# Altium schematic symbol library jlcpcb_2025_04_ferrites_extended_0402.schlib: 536 symbols (part 10 of 10)
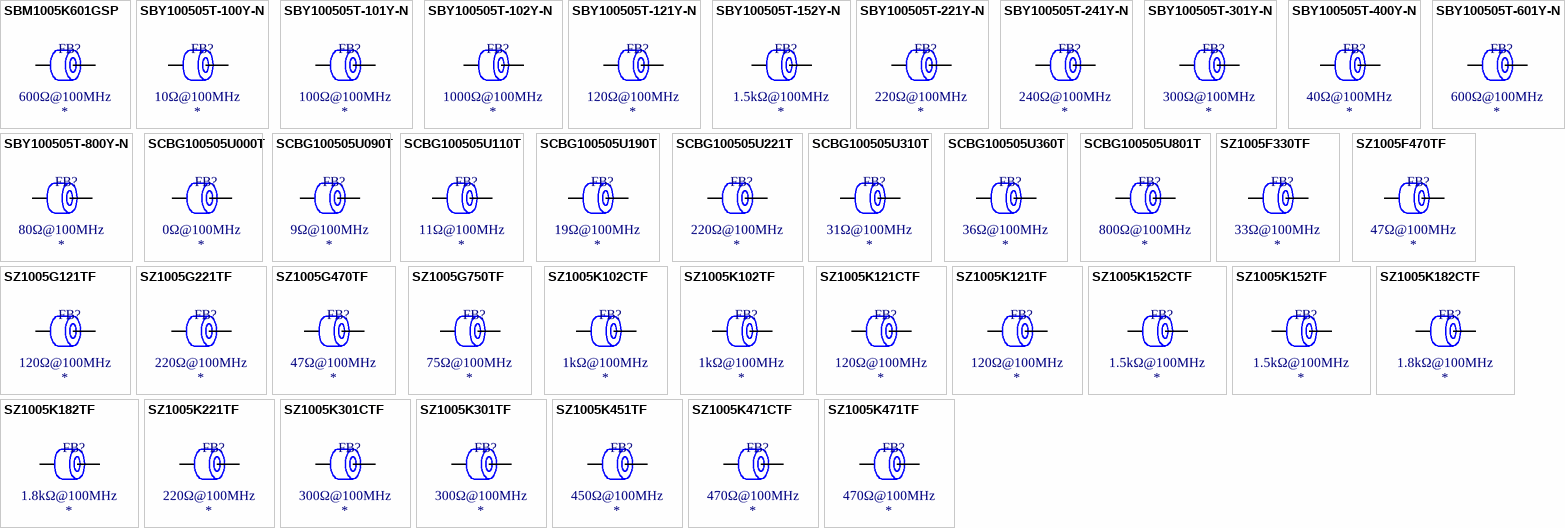
[diagram p22: symbols SBM1005K601GSP to SZ1005K471TF]

## SZ1005K102CTF
designator FB?  Impedance @ Frequency: 1kΩ@100MHz
Ferrite, 1kΩ@100MHz, ±25%, 900mΩ, 200mA, SMD 0402; Manufacturer: Sunlord; Manufacturer Part Number: SZ1005K102CTF; Package Size: 0402; JLCPCB Basic Part: No; JLCPCB Part Number: C316348; Supplier 1: LCSC; Category: Ferrite Beads; Supplier Part Number 1: C316348; Tolerance: ±25%; Rated Current: 200mA; DC Resistance: 900mΩ; RoHS: Yes; ComponentLink1Description: Datasheet; ComponentLink1URL: https://wmsc.lcsc.com/wmsc/upload/file/pdf/v2/lcsc/2310301641_Sunlord-SZ1005K102CTF_C316348.pdf; ComponentLink2Description: JLCPCB Part URL; ComponentLink2URL: https://jlcpcb.com/partdetail/C316348; ComponentLink3Description: LCSC Part URL; ComponentLink3URL: https://lcsc.com/product-detail/Ferrite-Beads_Sunlord-Sunlord-SZ1005K102CTF_C316348.html
footprint FB-0402 (0402 (1005M) Ferrite)
pins: 1, 2

## SZ1005K102TF
designator FB?  Impedance @ Frequency: 1kΩ@100MHz
Ferrite, 1kΩ@100MHz, ±25%, 1.2Ω, 100mA, SMD 0402; Manufacturer: Sunlord; Manufacturer Part Number: SZ1005K102TF; Package Size: 0402; JLCPCB Basic Part: No; JLCPCB Part Number: C92630; Supplier 1: LCSC; Category: Ferrite Beads; Supplier Part Number 1: C92630; Tolerance: ±25%; Rated Current: 100mA; DC Resistance: 1.2Ω; RoHS: Yes; ComponentLink1Description: Datasheet; ComponentLink1URL: https://wmsc.lcsc.com/wmsc/upload/file/pdf/v2/lcsc/2310301641_Sunlord-SZ1005K102TF_C92630.pdf; ComponentLink2Description: JLCPCB Part URL; ComponentLink2URL: https://jlcpcb.com/partdetail/C92630; ComponentLink3Description: LCSC Part URL; ComponentLink3URL: https://lcsc.com/product-detail/Ferrite-Beads_Sunlord-Sunlord-SZ1005K102TF_C92630.html
footprint FB-0402 (0402 (1005M) Ferrite)
pins: 1, 2

## SZ1005K121CTF
designator FB?  Impedance @ Frequency: 120Ω@100MHz
Ferrite, 120Ω@100MHz, ±25%, 400mΩ, SMD 0402; Manufacturer: Sunlord; Manufacturer Part Number: SZ1005K121CTF; Package Size: 0402; JLCPCB Basic Part: No; JLCPCB Part Number: C92627; Supplier 1: LCSC; Category: Ferrite Beads; Supplier Part Number 1: C92627; Tolerance: ±25%; DC Resistance: 400mΩ; RoHS: Yes; ComponentLink1Description: Datasheet; ComponentLink1URL: https://wmsc.lcsc.com/wmsc/upload/file/pdf/v2/lcsc/2310301641_Sunlord-SZ1005K121CTF_C92627.pdf; ComponentLink2Description: JLCPCB Part URL; ComponentLink2URL: https://jlcpcb.com/partdetail/C92627; ComponentLink3Description: LCSC Part URL; ComponentLink3URL: https://lcsc.com/product-detail/Ferrite-Beads_Sunlord-Sunlord-SZ1005K121CTF_C92627.html
pins: 1, 2

## SZ1005K121TF
designator FB?  Impedance @ Frequency: 120Ω@100MHz
Ferrite, 120Ω@100MHz, ±25%, 400mΩ, 400mA, SMD 0402; Manufacturer: Sunlord; Manufacturer Part Number: SZ1005K121TF; Package Size: 0402; JLCPCB Basic Part: No; JLCPCB Part Number: C96983; Supplier 1: LCSC; Category: Ferrite Beads; Supplier Part Number 1: C96983; Tolerance: ±25%; Rated Current: 400mA; DC Resistance: 400mΩ; RoHS: Yes; ComponentLink1Description: Datasheet; ComponentLink1URL: https://wmsc.lcsc.com/wmsc/upload/file/pdf/v2/lcsc/2310301641_Sunlord-SZ1005K121TF_C96983.pdf; ComponentLink2Description: JLCPCB Part URL; ComponentLink2URL: https://jlcpcb.com/partdetail/C96983; ComponentLink3Description: LCSC Part URL; ComponentLink3URL: https://lcsc.com/product-detail/Ferrite-Beads_Sunlord-Sunlord-SZ1005K121TF_C96983.html
footprint FB-0402 (0402 (1005M) Ferrite)
pins: 1, 2

## SZ1005K152CTF
designator FB?  Impedance @ Frequency: 1.5kΩ@100MHz
Ferrite, 1.5kΩ@100MHz, ±25%, 1.2Ω, 100mA, SMD 0402; Manufacturer: Sunlord; Manufacturer Part Number: SZ1005K152CTF; Package Size: 0402; JLCPCB Basic Part: No; JLCPCB Part Number: C370547; Supplier 1: LCSC; Category: Ferrite Beads; Supplier Part Number 1: C370547; Tolerance: ±25%; Rated Current: 100mA; DC Resistance: 1.2Ω; RoHS: Yes; ComponentLink1Description: Datasheet; ComponentLink1URL: https://wmsc.lcsc.com/wmsc/upload/file/pdf/v2/lcsc/2310301641_Sunlord-SZ1005K152CTF_C370547.pdf; ComponentLink2Description: JLCPCB Part URL; ComponentLink2URL: https://jlcpcb.com/partdetail/C370547; ComponentLink3Description: LCSC Part URL; ComponentLink3URL: https://lcsc.com/product-detail/Ferrite-Beads_Sunlord-Sunlord-SZ1005K152CTF_C370547.html
footprint FB-0402 (0402 (1005M) Ferrite)
pins: 1, 2

## SZ1005K152TF
designator FB?  Impedance @ Frequency: 1.5kΩ@100MHz
Ferrite, 1.5kΩ@100MHz, ±25%, 1.4Ω, 100mA, SMD 0402; Manufacturer: Sunlord; Manufacturer Part Number: SZ1005K152TF; Package Size: 0402; JLCPCB Basic Part: No; JLCPCB Part Number: C98276; Supplier 1: LCSC; Category: Ferrite Beads; Supplier Part Number 1: C98276; Tolerance: ±25%; Rated Current: 100mA; DC Resistance: 1.4Ω; RoHS: Yes; ComponentLink1Description: Datasheet; ComponentLink1URL: https://wmsc.lcsc.com/wmsc/upload/file/pdf/v2/lcsc/2310301641_Sunlord-SZ1005K152TF_C98276.pdf; ComponentLink2Description: JLCPCB Part URL; ComponentLink2URL: https://jlcpcb.com/partdetail/C98276; ComponentLink3Description: LCSC Part URL; ComponentLink3URL: https://lcsc.com/product-detail/Ferrite-Beads_Sunlord-Sunlord-SZ1005K152TF_C98276.html
footprint FB-0402 (0402 (1005M) Ferrite)
pins: 1, 2

## SZ1005K182CTF
designator FB?  Impedance @ Frequency: 1.8kΩ@100MHz
Ferrite, 1.8kΩ@100MHz, ±25%, 1.4Ω, 100mA, SMD 0402; Manufacturer: Sunlord; Manufacturer Part Number: SZ1005K182CTF; Package Size: 0402; JLCPCB Basic Part: No; JLCPCB Part Number: C279973; Supplier 1: LCSC; Category: Ferrite Beads; Supplier Part Number 1: C279973; Tolerance: ±25%; Rated Current: 100mA; DC Resistance: 1.4Ω; RoHS: Yes; ComponentLink1Description: Datasheet; ComponentLink1URL: https://wmsc.lcsc.com/wmsc/upload/file/pdf/v2/lcsc/2310301641_Sunlord-SZ1005K182CTF_C279973.pdf; ComponentLink2Description: JLCPCB Part URL; ComponentLink2URL: https://jlcpcb.com/partdetail/C279973; ComponentLink3Description: LCSC Part URL; ComponentLink3URL: https://lcsc.com/product-detail/Ferrite-Beads_Sunlord-Sunlord-SZ1005K182CTF_C279973.html
footprint FB-0402 (0402 (1005M) Ferrite)
pins: 1, 2

## SZ1005K182TF
designator FB?  Impedance @ Frequency: 1.8kΩ@100MHz
Ferrite, 1.8kΩ@100MHz, ±25%, 1.8Ω, 50mA, SMD 0402; Manufacturer: Sunlord; Manufacturer Part Number: SZ1005K182TF; Package Size: 0402; JLCPCB Basic Part: No; JLCPCB Part Number: C89917; Supplier 1: LCSC; Category: Ferrite Beads; Supplier Part Number 1: C89917; Tolerance: ±25%; Rated Current: 50mA; DC Resistance: 1.8Ω; RoHS: Yes; ComponentLink1Description: Datasheet; ComponentLink1URL: https://wmsc.lcsc.com/wmsc/upload/file/pdf/v2/lcsc/2310301641_Sunlord-SZ1005K182TF_C89917.pdf; ComponentLink2Description: JLCPCB Part URL; ComponentLink2URL: https://jlcpcb.com/partdetail/C89917; ComponentLink3Description: LCSC Part URL; ComponentLink3URL: https://lcsc.com/product-detail/Ferrite-Beads_Sunlord-Sunlord-SZ1005K182TF_C89917.html
footprint FB-0402 (0402 (1005M) Ferrite)
pins: 1, 2

## SZ1005K221TF
designator FB?  Impedance @ Frequency: 220Ω@100MHz
Ferrite, 220Ω@100MHz, ±25%, 700mΩ, 200mA, SMD 0402; Manufacturer: Sunlord; Manufacturer Part Number: SZ1005K221TF; Package Size: 0402; JLCPCB Basic Part: No; JLCPCB Part Number: C96984; Supplier 1: LCSC; Category: Ferrite Beads; Supplier Part Number 1: C96984; Tolerance: ±25%; Rated Current: 200mA; DC Resistance: 700mΩ; RoHS: Yes; ComponentLink1Description: Datasheet; ComponentLink1URL: https://wmsc.lcsc.com/wmsc/upload/file/pdf/v2/lcsc/2310301641_Sunlord-SZ1005K221TF_C96984.pdf; ComponentLink2Description: JLCPCB Part URL; ComponentLink2URL: https://jlcpcb.com/partdetail/C96984; ComponentLink3Description: LCSC Part URL; ComponentLink3URL: https://lcsc.com/product-detail/Ferrite-Beads_Sunlord-Sunlord-SZ1005K221TF_C96984.html
footprint FB-0402 (0402 (1005M) Ferrite)
pins: 1, 2

## SZ1005K301CTF
designator FB?  Impedance @ Frequency: 300Ω@100MHz
Ferrite, 300Ω@100MHz, ±25%, 800mΩ, SMD 0402; Manufacturer: Sunlord; Manufacturer Part Number: SZ1005K301CTF; Package Size: 0402; JLCPCB Basic Part: No; JLCPCB Part Number: C316347; Supplier 1: LCSC; Category: Ferrite Beads; Supplier Part Number 1: C316347; Tolerance: ±25%; DC Resistance: 800mΩ; RoHS: Yes; ComponentLink1Description: Datasheet; ComponentLink1URL: https://wmsc.lcsc.com/wmsc/upload/file/pdf/v2/lcsc/2310301641_Sunlord-SZ1005K301CTF_C316347.pdf; ComponentLink2Description: JLCPCB Part URL; ComponentLink2URL: https://jlcpcb.com/partdetail/C316347; ComponentLink3Description: LCSC Part URL; ComponentLink3URL: https://lcsc.com/product-detail/Ferrite-Beads_Sunlord-Sunlord-SZ1005K301CTF_C316347.html
pins: 1, 2

## SZ1005K301TF
designator FB?  Impedance @ Frequency: 300Ω@100MHz
Ferrite, 300Ω@100MHz, ±25%, 800mΩ, 200mA, SMD 0402; Manufacturer: Sunlord; Manufacturer Part Number: SZ1005K301TF; Package Size: 0402; JLCPCB Basic Part: No; JLCPCB Part Number: C98275; Supplier 1: LCSC; Category: Ferrite Beads; Supplier Part Number 1: C98275; Tolerance: ±25%; Rated Current: 200mA; DC Resistance: 800mΩ; RoHS: Yes; ComponentLink1Description: Datasheet; ComponentLink1URL: https://wmsc.lcsc.com/wmsc/upload/file/pdf/v2/lcsc/2310301641_Sunlord-SZ1005K301TF_C98275.pdf; ComponentLink2Description: JLCPCB Part URL; ComponentLink2URL: https://jlcpcb.com/partdetail/C98275; ComponentLink3Description: LCSC Part URL; ComponentLink3URL: https://lcsc.com/product-detail/Ferrite-Beads_Sunlord-Sunlord-SZ1005K301TF_C98275.html
footprint FB-0402 (0402 (1005M) Ferrite)
pins: 1, 2

## SZ1005K451TF
designator FB?  Impedance @ Frequency: 450Ω@100MHz
Ferrite, 450Ω@100MHz, ±25%, SMD 0402; Manufacturer: Sunlord; Manufacturer Part Number: SZ1005K451TF; Package Size: 0402; JLCPCB Basic Part: No; JLCPCB Part Number: C882643; Supplier 1: LCSC; Category: Ferrite Beads; Supplier Part Number 1: C882643; Tolerance: ±25%; RoHS: Yes; ComponentLink1Description: Datasheet; ComponentLink1URL: https://wmsc.lcsc.com/wmsc/upload/file/pdf/v2/lcsc/2310301641_Sunlord-SZ1005K451TF_C882643.pdf; ComponentLink2Description: JLCPCB Part URL; ComponentLink2URL: https://jlcpcb.com/partdetail/C882643; ComponentLink3Description: LCSC Part URL; ComponentLink3URL: https://lcsc.com/product-detail/Ferrite-Beads_Sunlord-Sunlord-SZ1005K451TF_C882643.html
pins: 1, 2

## SZ1005K471CTF
designator FB?  Impedance @ Frequency: 470Ω@100MHz
Ferrite, 470Ω@100MHz, ±25%, 600mΩ, SMD 0402; Manufacturer: Sunlord; Manufacturer Part Number: SZ1005K471CTF; Package Size: 0402; JLCPCB Basic Part: No; JLCPCB Part Number: C919156; Supplier 1: LCSC; Category: Ferrite Beads; Supplier Part Number 1: C919156; Tolerance: ±25%; DC Resistance: 600mΩ; RoHS: Yes; ComponentLink1Description: Datasheet; ComponentLink1URL: https://wmsc.lcsc.com/wmsc/upload/file/pdf/v2/lcsc/2310301641_Sunlord-SZ1005K471CTF_C919156.pdf; ComponentLink2Description: JLCPCB Part URL; ComponentLink2URL: https://jlcpcb.com/partdetail/C919156; ComponentLink3Description: LCSC Part URL; ComponentLink3URL: https://lcsc.com/product-detail/Ferrite-Beads_Sunlord-Sunlord-SZ1005K471CTF_C919156.html
pins: 1, 2

## SZ1005K471TF
designator FB?  Impedance @ Frequency: 470Ω@100MHz
Ferrite, 470Ω@100MHz, ±25%, SMD 0402; Manufacturer: Sunlord; Manufacturer Part Number: SZ1005K471TF; Package Size: 0402; JLCPCB Basic Part: No; JLCPCB Part Number: C92629; Supplier 1: LCSC; Category: Ferrite Beads; Supplier Part Number 1: C92629; Tolerance: ±25%; RoHS: Yes; ComponentLink1Description: Datasheet; ComponentLink1URL: https://wmsc.lcsc.com/wmsc/upload/file/pdf/v2/lcsc/2310301641_Sunlord-SZ1005K471TF_C92629.pdf; ComponentLink2Description: JLCPCB Part URL; ComponentLink2URL: https://jlcpcb.com/partdetail/C92629; ComponentLink3Description: LCSC Part URL; ComponentLink3URL: https://lcsc.com/product-detail/Ferrite-Beads_Sunlord-Sunlord-SZ1005K471TF_C92629.html
pins: 1, 2

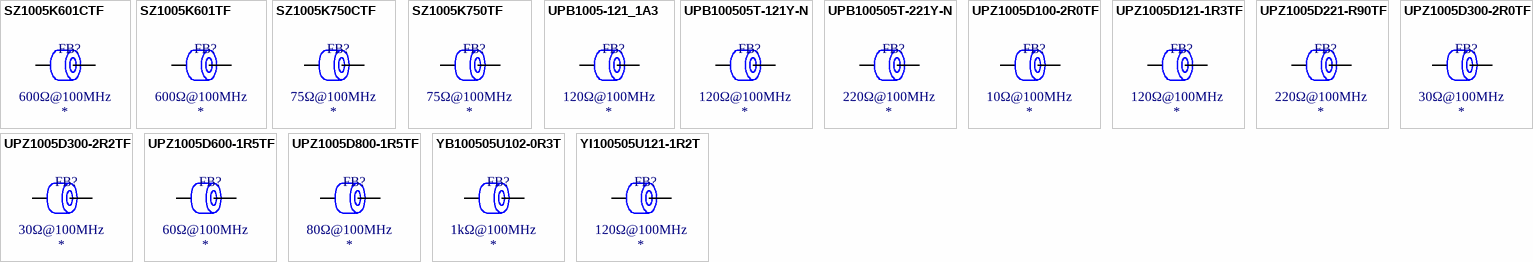
[diagram p13: symbols SZ1005K601CTF to YI100505U121-1R2T]

## SZ1005K601CTF
designator FB?  Impedance @ Frequency: 600Ω@100MHz
Ferrite, 600Ω@100MHz, ±25%, 1.1Ω, SMD 0402; Manufacturer: Sunlord; Manufacturer Part Number: SZ1005K601CTF; Package Size: 0402; JLCPCB Basic Part: No; JLCPCB Part Number: C316346; Supplier 1: LCSC; Category: Ferrite Beads; Supplier Part Number 1: C316346; Tolerance: ±25%; DC Resistance: 1.1Ω; RoHS: Yes; ComponentLink1Description: Datasheet; ComponentLink1URL: https://wmsc.lcsc.com/wmsc/upload/file/pdf/v2/lcsc/2310301641_Sunlord-SZ1005K601CTF_C316346.pdf; ComponentLink2Description: JLCPCB Part URL; ComponentLink2URL: https://jlcpcb.com/partdetail/C316346; ComponentLink3Description: LCSC Part URL; ComponentLink3URL: https://lcsc.com/product-detail/Ferrite-Beads_Sunlord-Sunlord-SZ1005K601CTF_C316346.html
pins: 1, 2

## SZ1005K601TF
designator FB?  Impedance @ Frequency: 600Ω@100MHz
Ferrite, 600Ω@100MHz, ±25%, 1.1Ω, 100mA, SMD 0402; Manufacturer: Sunlord; Manufacturer Part Number: SZ1005K601TF; Package Size: 0402; JLCPCB Basic Part: No; JLCPCB Part Number: C316345; Supplier 1: LCSC; Category: Ferrite Beads; Supplier Part Number 1: C316345; Tolerance: ±25%; Rated Current: 100mA; DC Resistance: 1.1Ω; RoHS: Yes; ComponentLink1Description: Datasheet; ComponentLink1URL: https://wmsc.lcsc.com/wmsc/upload/file/pdf/v2/lcsc/2310301641_Sunlord-SZ1005K601TF_C316345.pdf; ComponentLink2Description: JLCPCB Part URL; ComponentLink2URL: https://jlcpcb.com/partdetail/C316345; ComponentLink3Description: LCSC Part URL; ComponentLink3URL: https://lcsc.com/product-detail/Ferrite-Beads_Sunlord-Sunlord-SZ1005K601TF_C316345.html
footprint FB-0402 (0402 (1005M) Ferrite)
pins: 1, 2

## SZ1005K750CTF
designator FB?  Impedance @ Frequency: 75Ω@100MHz
Ferrite, 75Ω@100MHz, ±25%, 300mΩ, SMD 0402; Manufacturer: Sunlord; Manufacturer Part Number: SZ1005K750CTF; Package Size: 0402; JLCPCB Basic Part: No; JLCPCB Part Number: C370548; Supplier 1: LCSC; Category: Ferrite Beads; Supplier Part Number 1: C370548; Tolerance: ±25%; DC Resistance: 300mΩ; RoHS: Yes; ComponentLink1Description: Datasheet; ComponentLink1URL: https://wmsc.lcsc.com/wmsc/upload/file/pdf/v2/lcsc/2310301641_Sunlord-SZ1005K750CTF_C370548.pdf; ComponentLink2Description: JLCPCB Part URL; ComponentLink2URL: https://jlcpcb.com/partdetail/C370548; ComponentLink3Description: LCSC Part URL; ComponentLink3URL: https://lcsc.com/product-detail/Ferrite-Beads_Sunlord-Sunlord-SZ1005K750CTF_C370548.html
pins: 1, 2

## SZ1005K750TF
designator FB?  Impedance @ Frequency: 75Ω@100MHz
Ferrite, 75Ω@100MHz, ±25%, 300mΩ, 600mA, SMD 0402; Manufacturer: Sunlord; Manufacturer Part Number: SZ1005K750TF; Package Size: 0402; JLCPCB Basic Part: No; JLCPCB Part Number: C96985; Supplier 1: LCSC; Category: Ferrite Beads; Supplier Part Number 1: C96985; Tolerance: ±25%; Rated Current: 600mA; DC Resistance: 300mΩ; RoHS: Yes; ComponentLink1Description: Datasheet; ComponentLink1URL: https://wmsc.lcsc.com/wmsc/upload/file/pdf/v2/lcsc/2310301641_Sunlord-SZ1005K750TF_C96985.pdf; ComponentLink2Description: JLCPCB Part URL; ComponentLink2URL: https://jlcpcb.com/partdetail/C96985; ComponentLink3Description: LCSC Part URL; ComponentLink3URL: https://lcsc.com/product-detail/Ferrite-Beads_Sunlord-Sunlord-SZ1005K750TF_C96985.html
footprint FB-0402 (0402 (1005M) Ferrite)
pins: 1, 2

## UPB1005-121_1A3
designator FB?  Impedance @ Frequency: 120Ω@100MHz
Ferrite, 120Ω@100MHz, ±25%, 120mΩ, 1.3A, SMD 0402; Manufacturer: CEC(Shenzhen Zhenhua Fu Elec); Manufacturer Part Number: UPB1005-121/1A3; Package Size: 0402; JLCPCB Basic Part: No; JLCPCB Part Number: C2982969; Supplier 1: LCSC; Category: Ferrite Beads; Supplier Part Number 1: C2982969; Tolerance: ±25%; Rated Current: 1.3A; DC Resistance: 120mΩ; RoHS: Yes; ComponentLink1Description: Datasheet; ComponentLink2Description: JLCPCB Part URL; ComponentLink2URL: https://jlcpcb.com/partdetail/C2982969; ComponentLink3Description: LCSC Part URL; ComponentLink3URL: https://lcsc.com/product-detail/Ferrite-Beads_CECShenzhen-Zhenhua-Fu-Elec-CECShenzhen-Zhenhua-Fu-Elec-UPB1005-121-1A3_C2982969.html
footprint FB-0402 (0402 (1005M) Ferrite)
pins: 1, 2

## UPB100505T-121Y-N
designator FB?  Impedance @ Frequency: 120Ω@100MHz
Ferrite, 120Ω@100MHz, ±25%, 0.055Ω, 2000mA, SMD 0402; Manufacturer: Chilisin Elec; Manufacturer Part Number: UPB100505T-121Y-N; Package Size: 0402; JLCPCB Basic Part: No; JLCPCB Part Number: C285596; Supplier 1: LCSC; Category: Ferrite Beads; Supplier Part Number 1: C285596; Tolerance: ±25%; Rated Current: 2000mA; DC Resistance: 0.055Ω; RoHS: Yes; ComponentLink1Description: Datasheet; ComponentLink1URL: https://wmsc.lcsc.com/wmsc/upload/file/pdf/v2/lcsc/2304140030_Chilisin-Elec-UPB100505T-121Y-N_C285596.pdf; ComponentLink2Description: JLCPCB Part URL; ComponentLink2URL: https://jlcpcb.com/partdetail/C285596; ComponentLink3Description: LCSC Part URL; ComponentLink3URL: https://lcsc.com/product-detail/Ferrite-Beads_Chilisin-Elec-Chilisin-Elec-UPB100505T-121Y-N_C285596.html
footprint FB-0402 (0402 (1005M) Ferrite)
pins: 1, 2

## UPB100505T-221Y-N
designator FB?  Impedance @ Frequency: 220Ω@100MHz
Ferrite, 220Ω@100MHz, ±25%, 0.1Ω, 1400mA, SMD 0402; Manufacturer: Chilisin Elec; Manufacturer Part Number: UPB100505T-221Y-N; Package Size: 0402; JLCPCB Basic Part: No; JLCPCB Part Number: C108316; Supplier 1: LCSC; Category: Ferrite Beads; Supplier Part Number 1: C108316; Tolerance: ±25%; Rated Current: 1400mA; DC Resistance: 0.1Ω; RoHS: Yes; ComponentLink1Description: Datasheet; ComponentLink1URL: https://wmsc.lcsc.com/wmsc/upload/file/pdf/v2/lcsc/2304140030_Chilisin-Elec-UPB100505T-221Y-N_C108316.pdf; ComponentLink2Description: JLCPCB Part URL; ComponentLink2URL: https://jlcpcb.com/partdetail/C108316; ComponentLink3Description: LCSC Part URL; ComponentLink3URL: https://lcsc.com/product-detail/Ferrite-Beads_Chilisin-Elec-Chilisin-Elec-UPB100505T-221Y-N_C108316.html
footprint FB-0402 (0402 (1005M) Ferrite)
pins: 1, 2

## UPZ1005D100-2R0TF
designator FB?  Impedance @ Frequency: 10Ω@100MHz
Ferrite, 10Ω@100MHz, 45mΩ, 2A, SMD 0402; Manufacturer: Sunlord; Manufacturer Part Number: UPZ1005D100-2R0TF; Package Size: 0402; JLCPCB Basic Part: No; JLCPCB Part Number: C370568; Supplier 1: LCSC; Category: Ferrite Beads; Supplier Part Number 1: C370568; Rated Current: 2A; DC Resistance: 45mΩ; RoHS: Yes; ComponentLink1Description: Datasheet; ComponentLink1URL: https://wmsc.lcsc.com/wmsc/upload/file/pdf/v2/lcsc/2310301641_Sunlord-UPZ1005D100-2R0TF_C370568.pdf; ComponentLink2Description: JLCPCB Part URL; ComponentLink2URL: https://jlcpcb.com/partdetail/C370568; ComponentLink3Description: LCSC Part URL; ComponentLink3URL: https://lcsc.com/product-detail/Ferrite-Beads_Sunlord-Sunlord-UPZ1005D100-2R0TF_C370568.html
pins: 1, 2

## UPZ1005D121-1R3TF
designator FB?  Impedance @ Frequency: 120Ω@100MHz
Ferrite, 120Ω@100MHz, ±25%, 90mΩ, 1.3A, SMD 0402; Manufacturer: Sunlord; Manufacturer Part Number: UPZ1005D121-1R3TF; Package Size: 0402; JLCPCB Basic Part: No; JLCPCB Part Number: C96993; Supplier 1: LCSC; Category: Ferrite Beads; Supplier Part Number 1: C96993; Tolerance: ±25%; Rated Current: 1.3A; DC Resistance: 90mΩ; RoHS: Yes; ComponentLink1Description: Datasheet; ComponentLink1URL: https://wmsc.lcsc.com/wmsc/upload/file/pdf/v2/lcsc/2310301641_Sunlord-UPZ1005D121-1R3TF_C96993.pdf; ComponentLink2Description: JLCPCB Part URL; ComponentLink2URL: https://jlcpcb.com/partdetail/C96993; ComponentLink3Description: LCSC Part URL; ComponentLink3URL: https://lcsc.com/product-detail/Ferrite-Beads_Sunlord-Sunlord-UPZ1005D121-1R3TF_C96993.html
footprint FB-0402 (0402 (1005M) Ferrite)
pins: 1, 2

## UPZ1005D221-R90TF
designator FB?  Impedance @ Frequency: 220Ω@100MHz
Ferrite, 220Ω@100MHz, ±25%, 160mΩ, 0.9A, SMD 0402; Manufacturer: Sunlord; Manufacturer Part Number: UPZ1005D221-R90TF; Package Size: 0402; JLCPCB Basic Part: No; JLCPCB Part Number: C96994; Supplier 1: LCSC; Category: Ferrite Beads; Supplier Part Number 1: C96994; Tolerance: ±25%; Rated Current: 0.9A; DC Resistance: 160mΩ; RoHS: Yes; ComponentLink1Description: Datasheet; ComponentLink1URL: https://wmsc.lcsc.com/wmsc/upload/file/pdf/v2/lcsc/2310301641_Sunlord-UPZ1005D221-R90TF_C96994.pdf; ComponentLink2Description: JLCPCB Part URL; ComponentLink2URL: https://jlcpcb.com/partdetail/C96994; ComponentLink3Description: LCSC Part URL; ComponentLink3URL: https://lcsc.com/product-detail/Ferrite-Beads_Sunlord-Sunlord-UPZ1005D221-R90TF_C96994.html
footprint FB-0402 (0402 (1005M) Ferrite)
pins: 1, 2

## UPZ1005D300-2R0TF
designator FB?  Impedance @ Frequency: 30Ω@100MHz
Ferrite, 30Ω@100MHz, ±25%, 2A, SMD 0402; Manufacturer: Sunlord; Manufacturer Part Number: UPZ1005D300-2R0TF; Package Size: 0402; JLCPCB Basic Part: No; JLCPCB Part Number: C305247; Supplier 1: LCSC; Category: Ferrite Beads; Supplier Part Number 1: C305247; Tolerance: ±25%; Rated Current: 2A; RoHS: Yes; ComponentLink1Description: Datasheet; ComponentLink1URL: https://wmsc.lcsc.com/wmsc/upload/file/pdf/v2/lcsc/2310301641_Sunlord-UPZ1005D300-2R0TF_C305247.pdf; ComponentLink2Description: JLCPCB Part URL; ComponentLink2URL: https://jlcpcb.com/partdetail/C305247; ComponentLink3Description: LCSC Part URL; ComponentLink3URL: https://lcsc.com/product-detail/Ferrite-Beads_Sunlord-Sunlord-UPZ1005D300-2R0TF_C305247.html
pins: 1, 2

## UPZ1005D300-2R2TF
designator FB?  Impedance @ Frequency: 30Ω@100MHz
Ferrite, 30Ω@100MHz, ±25%, 35mΩ, 2.2A, SMD 0402; Manufacturer: Sunlord; Manufacturer Part Number: UPZ1005D300-2R2TF; Package Size: 0402; JLCPCB Basic Part: No; JLCPCB Part Number: C98299; Supplier 1: LCSC; Category: Ferrite Beads; Supplier Part Number 1: C98299; Tolerance: ±25%; Rated Current: 2.2A; DC Resistance: 35mΩ; RoHS: Yes; ComponentLink1Description: Datasheet; ComponentLink1URL: https://wmsc.lcsc.com/wmsc/upload/file/pdf/v2/lcsc/2310301641_Sunlord-UPZ1005D300-2R2TF_C98299.pdf; ComponentLink2Description: JLCPCB Part URL; ComponentLink2URL: https://jlcpcb.com/partdetail/C98299; ComponentLink3Description: LCSC Part URL; ComponentLink3URL: https://lcsc.com/product-detail/Ferrite-Beads_Sunlord-Sunlord-UPZ1005D300-2R2TF_C98299.html
footprint FB-0402 (0402 (1005M) Ferrite)
pins: 1, 2

## UPZ1005D600-1R5TF
designator FB?  Impedance @ Frequency: 60Ω@100MHz
Ferrite, 60Ω@100MHz, ±25%, 75mΩ, 1.5A, SMD 0402; Manufacturer: Sunlord; Manufacturer Part Number: UPZ1005D600-1R5TF; Package Size: 0402; JLCPCB Basic Part: No; JLCPCB Part Number: C98300; Supplier 1: LCSC; Category: Ferrite Beads; Supplier Part Number 1: C98300; Tolerance: ±25%; Rated Current: 1.5A; DC Resistance: 75mΩ; RoHS: Yes; ComponentLink1Description: Datasheet; ComponentLink1URL: https://wmsc.lcsc.com/wmsc/upload/file/pdf/v2/lcsc/2310301641_Sunlord-UPZ1005D600-1R5TF_C98300.pdf; ComponentLink2Description: JLCPCB Part URL; ComponentLink2URL: https://jlcpcb.com/partdetail/C98300; ComponentLink3Description: LCSC Part URL; ComponentLink3URL: https://lcsc.com/product-detail/Ferrite-Beads_Sunlord-Sunlord-UPZ1005D600-1R5TF_C98300.html
footprint FB-0402 (0402 (1005M) Ferrite)
pins: 1, 2

## UPZ1005D800-1R5TF
designator FB?  Impedance @ Frequency: 80Ω@100MHz
Ferrite, 80Ω@100MHz, ±25%, 70mΩ, 1.5A, SMD 0402; Manufacturer: Sunlord; Manufacturer Part Number: UPZ1005D800-1R5TF; Package Size: 0402; JLCPCB Basic Part: No; JLCPCB Part Number: C185901; Supplier 1: LCSC; Category: Ferrite Beads; Supplier Part Number 1: C185901; Tolerance: ±25%; Rated Current: 1.5A; DC Resistance: 70mΩ; RoHS: Yes; ComponentLink1Description: Datasheet; ComponentLink1URL: https://wmsc.lcsc.com/wmsc/upload/file/pdf/v2/lcsc/2310301641_Sunlord-UPZ1005D800-1R5TF_C185901.pdf; ComponentLink2Description: JLCPCB Part URL; ComponentLink2URL: https://jlcpcb.com/partdetail/C185901; ComponentLink3Description: LCSC Part URL; ComponentLink3URL: https://lcsc.com/product-detail/Ferrite-Beads_Sunlord-Sunlord-UPZ1005D800-1R5TF_C185901.html
footprint FB-0402 (0402 (1005M) Ferrite)
pins: 1, 2

## YB100505U102-0R3T
designator FB?  Impedance @ Frequency: 1kΩ@100MHz
Ferrite, 1kΩ@100MHz, ±25%, 1Ω, 300mA, SMD 0402; Manufacturer: YJYCOIN; Manufacturer Part Number: YB100505U102-0R3T; Package Size: 0402; JLCPCB Basic Part: No; JLCPCB Part Number: C3011206; Supplier 1: LCSC; Category: Ferrite Beads; Supplier Part Number 1: C3011206; Tolerance: ±25%; Rated Current: 300mA; DC Resistance: 1Ω; RoHS: Yes; ComponentLink1Description: Datasheet; ComponentLink1URL: https://wmsc.lcsc.com/wmsc/upload/file/pdf/v2/lcsc/2205091530_YJYCOIN-YB100505U102-0R3T_C3011206.pdf; ComponentLink2Description: JLCPCB Part URL; ComponentLink2URL: https://jlcpcb.com/partdetail/C3011206; ComponentLink3Description: LCSC Part URL; ComponentLink3URL: https://lcsc.com/product-detail/Ferrite-Beads_YJYCOIN-YJYCOIN-YB100505U102-0R3T_C3011206.html
footprint FB-0402 (0402 (1005M) Ferrite)
pins: 1, 2

## YI100505U121-1R2T
designator FB?  Impedance @ Frequency: 120Ω@100MHz
Ferrite, 120Ω@100MHz, ±25%, 200mΩ, 1.2A, SMD 0402; Manufacturer: YJYCOIN; Manufacturer Part Number: YI100505U121-1R2T; Package Size: 0402; JLCPCB Basic Part: No; JLCPCB Part Number: C3011208; Supplier 1: LCSC; Category: Ferrite Beads; Supplier Part Number 1: C3011208; Tolerance: ±25%; Rated Current: 1.2A; DC Resistance: 200mΩ; RoHS: Yes; ComponentLink1Description: Datasheet; ComponentLink1URL: https://wmsc.lcsc.com/wmsc/upload/file/pdf/v2/lcsc/2205091530_YJYCOIN-YI100505U121-1R2T_C3011208.pdf; ComponentLink2Description: JLCPCB Part URL; ComponentLink2URL: https://jlcpcb.com/partdetail/C3011208; ComponentLink3Description: LCSC Part URL; ComponentLink3URL: https://lcsc.com/product-detail/Ferrite-Beads_YJYCOIN-YJYCOIN-YI100505U121-1R2T_C3011208.html
footprint FB-0402 (0402 (1005M) Ferrite)
pins: 1, 2